# Altium footprint library Diod.PcbLib: 1 footprints
Each footprint in its own frame and in the unit in brackets; x right, y up, seen from the top. Pads: shape width x height; smd on the part's side, far side on the other; paste and mask are expansions set on the pad; w line width, h text height; cw(c..) or ccw(c..) is an arc to the next point about the centre after c.
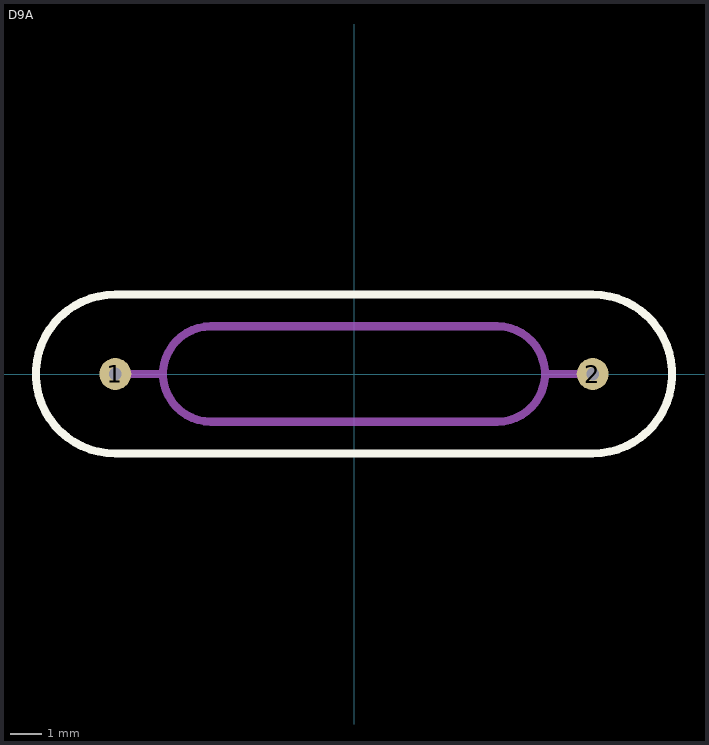
[diagram p0: the footprint, top view; thin cyan lines are the x and y axes]

## D9A [mm]
pads (2):
  round 1 hole 0.4: 1(-7.5,0) 2(7.5,0)
Top Overlay:
  lines w0.254: -7.5,-2.5 cw(c-7.5,0) -7.5,2.5 7.5,2.5 cw(c7.5,0) 7.5,-2.5 -7.5,-2.5
Mechanical 1:
  lines w0.254: -7.5,0 -6,0 ; 4.497,-1.5 ccw(c4.5,0) 4.497,1.5 ; 4.5,-1.5 -4.5,-1.5 cw(c-4.5,0) -4.5,1.5 4.5,1.5 ; 6.1,0 7.5,0